# EAGLE library part AD5317 (library batterytester)
AD5317 10-bit 4-channel DAC
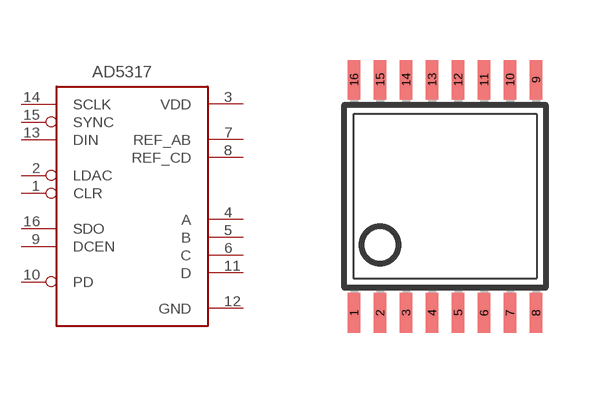
[diagram p1: symbol with the pads of TSSOP16; footprint TSSOP16]

Designator prefix IC

## AD5317  [TSSOP16]
1  CLR
2  LDAC
3  VDD
4  A
5  B
6  C
7  REF_AB
8  REF_CD
9  DCEN
10  PD
11  D
12  GND
13  DIN
14  SCLK
15  SYNC
16  SDO

## Footprint TSSOP16 (pad centres in mm)
Thin Shrink Small Outline Plastic 16
smd 0.305 x 0.991: 1 -2.275,-2.918; 2 -1.625,-2.918; 3 -0.975,-2.918; 4 -0.325,-2.918; 5 0.325,-2.918; 6 0.975,-2.918; 7 1.625,-2.918; 8 2.275,-2.918; 9 2.275,2.918; 10 1.625,2.918; 11 0.975,2.918; 12 0.325,2.918; 13 -0.325,2.918; 14 -0.975,2.918; 15 -1.625,2.918; 16 -2.275,2.918